# EAGLE library part EPS8266 (library SensorCape)
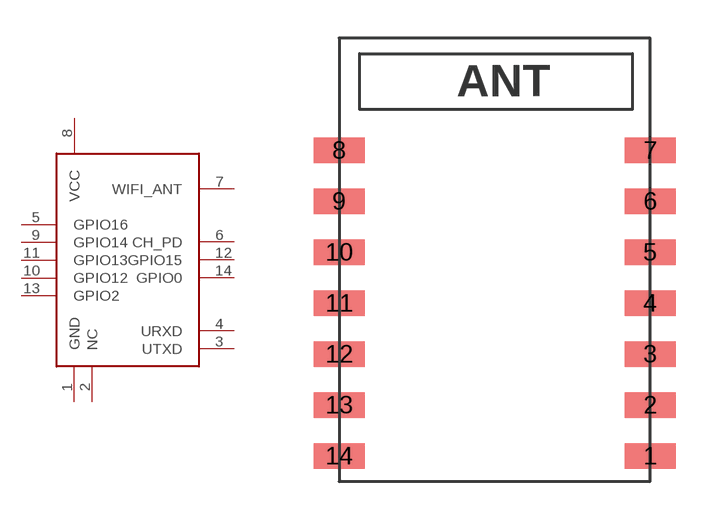
[diagram p30: symbol with the pads of ESP8266-03; footprint ESP8266-03]

Designator prefix -

## EPS8266  [ESP8266-03]
1  GND
2  NC
3  UTXD
4  URXD
5  GPIO16
6  CH_PD
7  WIFI_ANT
8  VCC
9  GPIO14
10  GPIO12
11  GPIO13
12  GPIO15
13  GPIO2
14  GPIO0

## Footprint ESP8266-03 (pad centres in mm)
smd 2 x 1: 1 12.2,1; 2 12.2,3; 3 12.2,5; 4 12.2,7; 5 12.2,9; 6 12.2,11; 7 12.2,13; 8 0,13; 9 0,11; 10 0,9; 11 0,7; 12 0,5; 13 0,3; 14 0,1